# EAGLE library part BQ24075RGTT (library BQ24075RGTT)
Check availability <https://pricing.snapeda.com/parts/BQ24075RGTT/Texas%20Instruments/view-part?ref=eda>
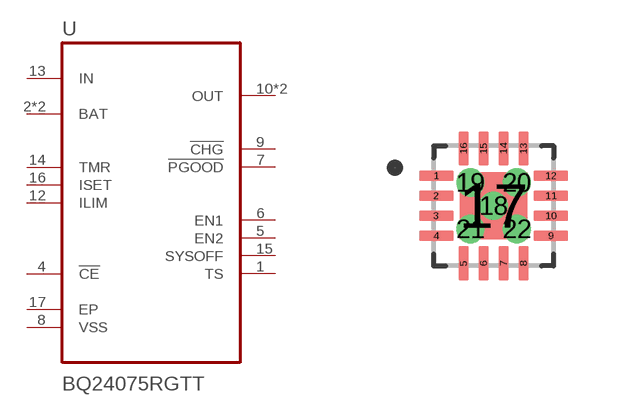
[diagram p0: symbol with the pads of QFN50P300X300X100-17N; footprint QFN50P300X300X100-17N]

Designator prefix U

## BQ24075RGTT (AVAILABILITY: In Stock; CHECK_PRICES: https://www.snapeda.com/parts/BQ24075RGTT/Texas+Instruments/view-part/?ref=eda; DESCRIPTION: Standalone 1-cell 1.5-A linear battery charger, Power Path, 4.2-V VBAT and 5.5-V VOUT; MF: Texas Instruments; MP: BQ24075RGTT; PACKAGE: VQFN-16 Texas Instruments; PRICE: None; SNAPEDA_LINK: https://www.snapeda.com/parts/BQ24075RGTT/Texas+Instruments/view-part/?ref=snap)  [QFN50P300X300X100-17N]
1  TS
2  BAT
3  BAT
4  !CE  in
5  EN2  in
6  EN1  in
7  !PGOOD  out
8  VSS  pwr
9  !CHG  out
10  OUT  out
11  OUT  out
12  ILIM  out
13  IN  in
14  TMR  in
15  SYSOFF  in
16  ISET
17  EP

## Footprint QFN50P300X300X100-17N (pad centres in mm)
smd 0.86 x 0.26: 1 -1.435,0.75; 2 -1.435,0.25; 3 -1.435,-0.25; 4 -1.435,-0.75; 9 1.435,-0.75; 10 1.435,-0.25; 11 1.435,0.25; 12 1.435,0.75
smd 0.26 x 0.86: 5 -0.75,-1.435; 6 -0.25,-1.435; 7 0.25,-1.435; 8 0.75,-1.435; 13 0.75,1.435; 14 0.25,1.435; 15 -0.25,1.435; 16 -0.75,1.435
smd 1.68 x 1.68: 17 0,0
drill 0.2 pad 0.4: 18 0,0; 19 -0.58,0.58; 20 0.58,0.58; 21 -0.58,-0.58; 22 0.58,-0.58